# Altium schematic symbol library Connector.SchLib: 56 symbols
Pins are listed as number, name and electrical type; pins without a type are passive.

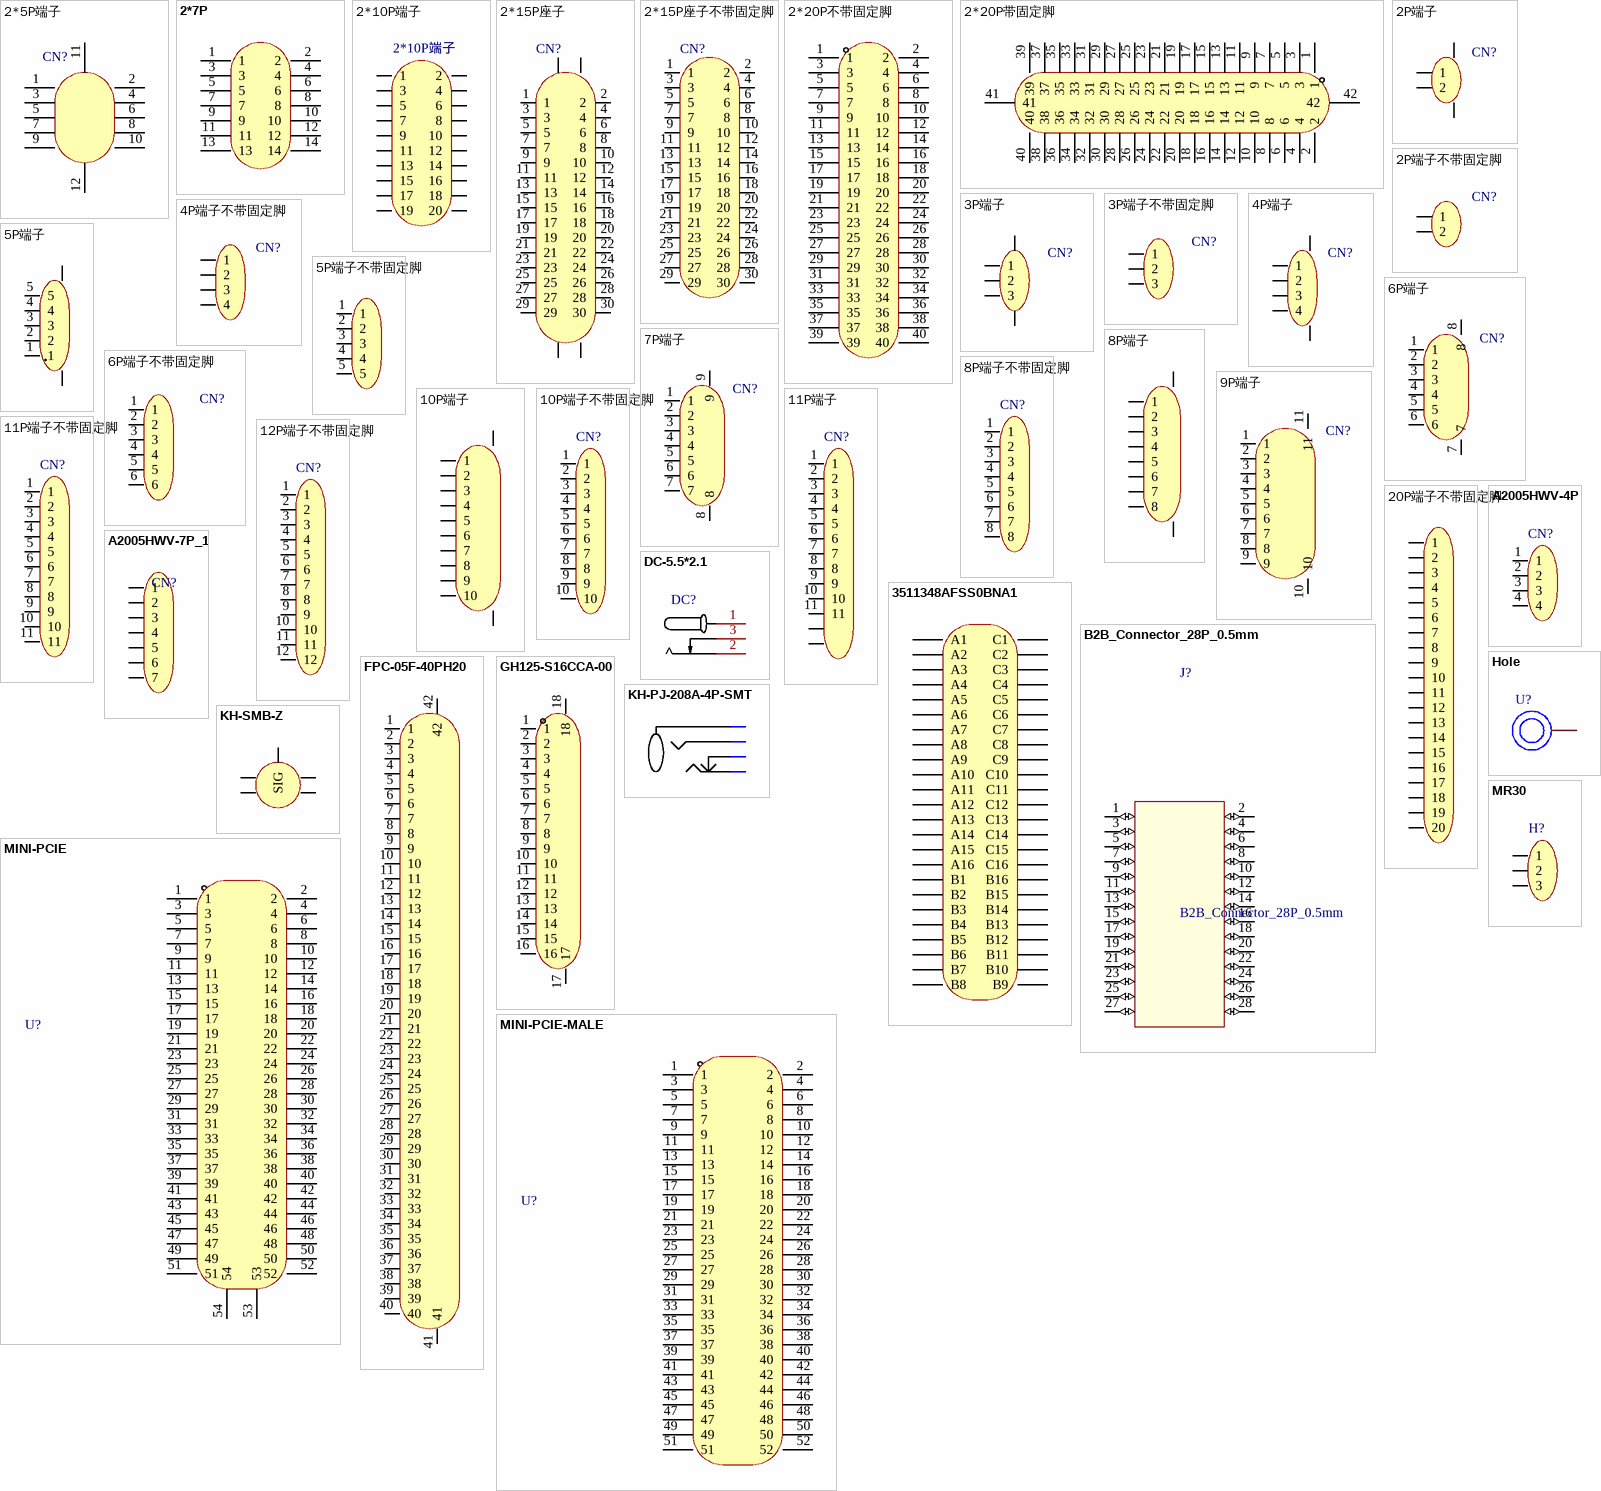
[diagram p0: symbols 2*5P端子 to MR30]

## 2*5P端子
designator CN?
Manufacturer: HRS(广濑); Name: DF13EA-10DP-1.25V(51); Add into BOM: yes; Pitch: 1.25mm; Pins Structure: 2x5P; Number of PINs Per Row: 5; Symbol: DF13EA-10DP-1.25V(51); Device: DF13EA-10DP-1.25V(51); LCSC Part Name: 1.25mm 2x5P 镀金; Supplier Part: C202097; Manufacturer Part: DF13EA-10DP-1.25V(51); Supplier Footprint: -; JLCPCB Part Class: 扩展库; Datasheet: https://atta.szlcsc.com/upload/public/pdf/source/20180509/C202097_E7D921A58D397E1E94E897FCB3FA39ED.pdf; Supplier: LCSC; Convert to PCB: yes; Reference Series: -; Number of Rows: 2; Row Spacing: 1.25mm; Mounting Style: -; Contact Material: 黄铜
footprint CONN-SMD_DF13EA-10DP-1.25V-51
pins: 1, 2, 3, 4, 5, 6, 7, 8, 9, 10, 11, 12

## 2*7P
designator ?, comment 220S-2*7P H=8.5MM Ytype Gold-plated  (value not drawn)
Designer: U?; Symbol: 220S-2*7P H=8.5MM Ytype Gold-plated; Device: 220S-2*7P H=8.5MM Ytype Gold-plated
footprint HDR-TH_14P-P2.54-V-F-R2-C7-S2.54-1
pins: 1, 2, 3, 4, 5, 6, 7, 8, 9, 10, 11, 12, 13, 14

## 2*10P端子
designator 2*10P端子, comment HDR-F_2.54_2x10  (value not drawn)
Symbol: HDR-F-2.54_2x10; Convert to PCB: yes; Device: HDR-F_2.54_2x10; Add into BOM: yes; Supplier Part: C30867; Supplier Footprint: 插件
footprint HDR-TH_20P-P2.54-V-R2-C10-S2.54
pins: 1, 2, 3, 4, 5, 6, 7, 8, 9, 10, 11, 12, 13, 14, 15, 16, 17, 18, 19, 20

## 2*15P座子
designator CN?, comment DF40C-30DP-0.4V(51)  (value not drawn)
Manufacturer: HRS(广濑); Add into BOM: yes; Pitch: 0.4mm; Gender: 公; Current Rating (Max): 300mA; Symbol: DF40C-30DP-0.4V(51); Device: DF40C-30DP-0.4V(51); LCSC Part Name: 间距:0.4mm 公 立贴; Supplier Part: C429942; Manufacturer Part: DF40C-30DP-0.4V(51); Supplier Footprint: SMD,P=0.4mm; JLCPCB Part Class: 扩展库; Datasheet: https://atta.szlcsc.com/upload/public/pdf/source/20231113/18A8F069D5701786547DA45156C17706.pdf; Supplier: LCSC; Convert to PCB: yes; Number of Pins: -; Mounting Style: 立贴; Number of Rows: 2; Contact Material: -; Contact Plating: 金; Operating Temperature Range: -35℃~+85℃
footprint CONN-SMD_DF40C-30DP-0.4V-51
pins: 1, 2, 3, 4, 5, 6, 7, 8, 9, 10, 11, 12, 13, 14, 15, 16, 17, 18, 19, 20, 21, 22, 23, 24, 25, 26, 27, 28, 29, 30, 31, 32, 33, 34

## 2*15P座子不带固定脚
designator CN?, comment DF40C-30DS-0.4V(51)  (value not drawn)
Manufacturer: HRS(广濑); Add into BOM: yes; Pitch: 0.4mm; Gender: 母; Current Rating (Max): 300mA; Symbol: DF40C-30DS-0.4V(51); Device: DF40C-30DS-0.4V(51); LCSC Part Name: 间距:0.4mm 母 立贴; Supplier Part: C424642; Manufacturer Part: DF40C-30DS-0.4V(51); Supplier Footprint: SMD,P=0.4mm; JLCPCB Part Class: 扩展库; Datasheet: https://atta.szlcsc.com/upload/public/pdf/source/20190903/C424648_4BEB475664B3701E3114D0DD20EED667.pdf; Supplier: LCSC; Convert to PCB: yes; Number of Pins: -; Mounting Style: 立贴; Number of Rows: 2; Contact Plating: 金; Operating Temperature Range: -35℃~+85℃
footprint CONN-SMD_DF40C-30DS-0.4V-51 (母座)
pins: 1, 2, 3, 4, 5, 6, 7, 8, 9, 10, 11, 12, 13, 14, 15, 16, 17, 18, 19, 20, 21, 22, 23, 24, 25, 26, 27, 28, 29, 30

## 2*20P不带固定脚
designator ?, comment 5054334071  (value not drawn)
Designer: U?; Symbol: 5054334071; Device: 5054334071
footprint IDC-SMD_40P-P2.00_B-3002N40P-0110
pins: 1, 2, 3, 4, 5, 6, 7, 8, 9, 10, 11, 12, 13, 14, 15, 16, 17, 18, 19, 20, 21, 22, 23, 24, 25, 26, 27, 28, 29, 30, 31, 32, 33, 34, 35, 36, 37, 38, 39, 40

## 2*20P带固定脚
designator ?, comment 5054334071  (value not drawn)
Designer: U?; Symbol: 5054334071; Device: 5054334071
footprint CONN-SMD_40P-P1.00_XKB_X1004WVS-2X20-9TV01
footprint CONN-SMD_40P-P1.00_HDGC_HDGC1002WV-S-2X20P
pins: 1, 2, 3, 4, 5, 6, 7, 8, 9, 10, 11, 12, 13, 14, 15, 16, 17, 18, 19, 20, 21, 22, 23, 24, 25, 26, 27, 28, 29, 30, 31, 32, 33, 34, 35, 36, 37, 38, 39, 40, 41, 42

## 2P端子
designator CN?, comment HDGC1002WR-S-3P  (value not drawn)
Manufacturer: HDGC(华德共创); Add into BOM: yes; Name: HDGC1002WR-S-3P; Symbol: HDGC1002WR-S-3P; Device: HDGC1002WR-S-3P; LCSC Part Name: SH1.0针座卧贴 3P; Supplier Part: C2936213; Manufacturer Part: HDGC1002WR-S-3P; Supplier Footprint: SMD,P=1mm; JLCPCB Part Class: 扩展库; Datasheet: https://atta.szlcsc.com/upload/public/pdf/source/20211229/E8A09E85670B5E97244D2008A24D97FE.pdf; Supplier: LCSC; Convert to PCB: yes
footprint SH1.0_2P
footprint CONN-SMD_2P-P1.27_GH125-S02CCA-00
footprint CONN-SMD_2P-P2.50-WT
footprint CONN-SMD_2P-P1.25_L4.4-W7.4
footprint CONN-SMD_2P-P1.50_ZX-ZH1.5-2PWT
footprint CONN-TH_2P-P1.25_XUNPU_WAFER-GH1.25-2PWB
pins: 1, 2, 3, 4

## 2P端子不带固定脚
designator CN?, comment HDGC1002WR-S-3P  (value not drawn)
Manufacturer: HDGC(华德共创); Add into BOM: yes; Name: HDGC1002WR-S-3P; Symbol: HDGC1002WR-S-3P; Device: HDGC1002WR-S-3P; LCSC Part Name: SH1.0针座卧贴 3P; Supplier Part: C2936213; Manufacturer Part: HDGC1002WR-S-3P; Supplier Footprint: SMD,P=1mm; JLCPCB Part Class: 扩展库; Datasheet: https://atta.szlcsc.com/upload/public/pdf/source/20211229/E8A09E85670B5E97244D2008A24D97FE.pdf; Supplier: LCSC; Convert to PCB: yes
footprint CONN-TH_P5.08_KF2EDGVC-5.08-2P
pins: 1, 2

## 3P端子
designator CN?, comment HDGC1002WR-S-3P  (value not drawn)
Manufacturer: HDGC(华德共创); Add into BOM: yes; Name: HDGC1002WR-S-3P; Symbol: HDGC1002WR-S-3P; Device: HDGC1002WR-S-3P; LCSC Part Name: SH1.0针座卧贴 3P; Supplier Part: C2936213; Manufacturer Part: HDGC1002WR-S-3P; Supplier Footprint: SMD,P=1mm; JLCPCB Part Class: 扩展库; Datasheet: https://atta.szlcsc.com/upload/public/pdf/source/20211229/E8A09E85670B5E97244D2008A24D97FE.pdf; Supplier: LCSC; Convert to PCB: yes
footprint SH1.0_3P
footprint GH1.25_3P
footprint GH1.25_3P-STAND
footprint SH1.0_3P-STAND (SH1.0_3P)
pins: 1, 2, 3, 4, 5

## 3P端子不带固定脚
designator CN?, comment HDGC1002WR-S-3P  (value not drawn)
Manufacturer: HDGC(华德共创); Add into BOM: yes; Name: HDGC1002WR-S-3P; Symbol: HDGC1002WR-S-3P; Device: HDGC1002WR-S-3P; LCSC Part Name: SH1.0针座卧贴 3P; Supplier Part: C2936213; Manufacturer Part: HDGC1002WR-S-3P; Supplier Footprint: SMD,P=1mm; JLCPCB Part Class: 扩展库; Datasheet: https://atta.szlcsc.com/upload/public/pdf/source/20211229/E8A09E85670B5E97244D2008A24D97FE.pdf; Supplier: LCSC; Convert to PCB: yes
footprint HDR-TH_3P-P2.54-V-F (间距2.54)
pins: 1, 2, 3

## 4P端子
designator CN?, comment HDGC1002WR-S-4P  (value not drawn)
Manufacturer: HDGC(华德共创); Add into BOM: yes; Name: HDGC1002WR-S-4P; Symbol: HDGC1002WR-S-4P; Device: HDGC1002WR-S-4P; LCSC Part Name: SH1.0针座卧贴 4P; Supplier Part: C2936214; Manufacturer Part: HDGC1002WR-S-4P; Supplier Footprint: SMD,P=1mm; JLCPCB Part Class: 扩展库; Datasheet: https://atta.szlcsc.com/upload/public/pdf/source/20211229/E8A09E85670B5E97244D2008A24D97FE.pdf; Supplier: LCSC; Convert to PCB: yes
footprint SH1.0_4P
footprint GH1.25_4P
footprint GH1.25_4P-STAND
footprint FPC-SMD_P0.50-4P_LSSJ-H2.0-4P
footprint SH1.0_4P-STAND (SH1.0_4P)
pins: 1, 2, 3, 4, 5, 6

## 4P端子不带固定脚
designator CN?, comment HDGC1002WR-S-4P  (value not drawn)
Manufacturer: HDGC(华德共创); Add into BOM: yes; Name: HDGC1002WR-S-4P; Symbol: HDGC1002WR-S-4P; Device: HDGC1002WR-S-4P; LCSC Part Name: SH1.0针座卧贴 4P; Supplier Part: C2936214; Manufacturer Part: HDGC1002WR-S-4P; Supplier Footprint: SMD,P=1mm; JLCPCB Part Class: 扩展库; Datasheet: https://atta.szlcsc.com/upload/public/pdf/source/20211229/E8A09E85670B5E97244D2008A24D97FE.pdf; Supplier: LCSC; Convert to PCB: yes
footprint CONN-TH_4P-P5.08_KF2EDGVC-5.08-4P
footprint HDR-TH_4P-P2.54-V-F (间距2.54)
pins: 1, 2, 3, 4

## 5P端子
designator CN?
Manufacturer: BOOMELE(博穆精密); Name: GH1.25-5PWBPZ; Add into BOM: yes; Symbol: GH1.25-5PWBPZ; Device: GH1.25-5PWBPZ; LCSC Part Name: GH1.25-5P卧贴编带; Supplier Part: C2829254; Manufacturer Part: GH1.25-5PWBPZ; Supplier Footprint: -; JLCPCB Part Class: 扩展库; Datasheet: https://atta.szlcsc.com/upload/public/pdf/source/20211125/08A09A4909F58AF780B71FE423A00F7E.pdf; Supplier: LCSC; Convert to PCB: yes
footprint GH1.25_5P
footprint GH1.25_5P-STAND
footprint SH1.0_5P
footprint SH1.0-5P-STAND
pins: 1, 2, 3, 4, 5, 6, 7

## 5P端子不带固定脚
designator CN??, comment DB2EVC-2.54-5P-GN  (value not drawn)
Manufacturer: DIBO(地博电气); Add into BOM: yes; Connector Type: 板端/插座-闭口; Structure: 1x5P; Pitch: 2.54mm; Number of PINs Per Row: 5; Current Rating (Max): 5A; Voltage Rating (Max): 150V; Name: DB2EVC-2.54-5P-GN; Symbol: DB2EVC-2.54-5P-GN; Device: DB2EVC-2.54-5P-GN; LCSC Part Name: 板端/插座-闭口 1x5P 2.54mm 排数:1 每排P数:5 直针; Supplier Part: C2927496; Manufacturer Part: DB2EVC-2.54-5P-GN; Supplier Footprint: 插件,P=2.54mm; JLCPCB Part Class: Extended Part; Datasheet: https://atta.szlcsc.com/upload/public/pdf/source/20230321/FA8558C4B64694DD69E8038406C6376C.pdf; Supplier: LCSC; Convert to PCB: yes; Number of Rows: 1; Mounting Style: 直针; Contact Material: 铜合金; Contact Plating: 锡; Operating Temperature Range: -40℃~+105℃; Color: 绿色
footprint CONN-TH_5P-P2.54_DIBO_DB2EVC-2.54-5P-GN
pins: 1, 2, 3, 4, 5

## 6P端子
designator CN?, comment SH1.0-6P  (value not drawn)
Manufacturer: HDGC(华德共创); Name: 1.0K-BH-6PWB; Add into BOM: yes; Symbol: 1.0K-BH-6PWB; Device: 1.0K-BH-6PWB; LCSC Part Name: 1x6P 间距P=1.0mm 卧贴 SMT; Supplier Part: C2919607; Manufacturer Part: 1.0K-BH-6PWB; Supplier Footprint: SMD,P=1mm; JLCPCB Part Class: 扩展库; Datasheet: https://atta.szlcsc.com/upload/public/pdf/source/20211115/0C4A9B301513FDEAA34F959002791CED.pdf; Supplier: LCSC; Convert to PCB: yes
footprint SH1.0_6P
footprint FPC-SMD_P0.50-6P_LSSJ-H2.0-6P - duplicate
footprint CONN-SMD_6P-P1.25_XUNPU_WAFER-GH1.25-6PWB
pins: 1, 2, 3, 4, 5, 6, 7, 8

## 6P端子不带固定脚
designator CN?, comment SH1.0-6P  (value not drawn)
Manufacturer: HDGC(华德共创); Name: 1.0K-BH-6PWB; Add into BOM: yes; Symbol: 1.0K-BH-6PWB; Device: 1.0K-BH-6PWB; LCSC Part Name: 1x6P 间距P=1.0mm 卧贴 SMT; Supplier Part: C2919607; Manufacturer Part: 1.0K-BH-6PWB; Supplier Footprint: SMD,P=1mm; JLCPCB Part Class: 扩展库; Datasheet: https://atta.szlcsc.com/upload/public/pdf/source/20211115/0C4A9B301513FDEAA34F959002791CED.pdf; Supplier: LCSC; Convert to PCB: yes
footprint CONN-TH_6P-P5.08_KF2EDGVC-5.08-6P
footprint HDR-TH_6P-P1.27-V-M-1
pins: 1, 2, 3, 4, 5, 6

## 7P端子
designator CN?, comment HDGC1002WR-S-7P  (value not drawn)
Manufacturer: HDGC(华德共创); Add into BOM: yes; Name: HDGC1002WR-S-7P; Symbol: HDGC1002WR-S-7P; Device: HDGC1002WR-S-7P; LCSC Part Name: SH1.0针座卧贴 7P; Supplier Part: C5175296; Manufacturer Part: HDGC1002WR-S-7P; Supplier Footprint: SMD,P=1mm; JLCPCB Part Class: 扩展库; Datasheet: https://atta.szlcsc.com/upload/public/pdf/source/20220916/BAB1FBE762C51A6AFF93A047416729EC.pdf; Supplier: LCSC; Convert to PCB: yes
footprint SH1.0_7P
footprint GH1.25_7P-STAND
pins: 1, 2, 3, 4, 5, 6, 7, 8, 9

## 8P端子
designator ?, comment A1002WR-S-8P  (value not drawn)
Designer: U?; Symbol: A1002WR-S-8P; Device: A1002WR-S-8P
footprint SH1.0-8P
footprint CONN-SMD_8P-P1.25_JS_GH125-S08CCA-00
footprint SH1.0_8P-STAND
pins: 1, 2, 3, 4, 5, 6, 7, 8, 9, 10

## 8P端子不带固定脚
designator CN?, comment X1002WRS-11B1-9TSN  (value not drawn)
Manufacturer: XKB Connectivity(中国星坤); Add into BOM: yes; Pitch: 1mm; Pins Structure: 1x11P; Number of PINs Per Row: 11; Gender: 公型插针; Current Rating (Max): 1A; Welding Temperature (Max): 260℃; Name: X1002WRS-11B1-9TSN; Symbol: X1002WRS-11B1-9TSN; Device: X1002WRS-11B1-9TSN; LCSC Part Name: 1mm 1x11P 卧贴 带锁扣; Supplier Part: C528067; Manufacturer Part: X1002WRS-11B1-9TSN; Supplier Footprint: SMD,P=1mm; JLCPCB Part Class: 扩展库; Datasheet: https://atta.szlcsc.com/upload/public/pdf/source/20211011/1437E7AC5BA28D97E3BC6E2D0E99510D.pdf; Supplier: LCSC; Convert to PCB: yes; Reference Series: -; Number of Rows: 1; Row Spacing: -; Mounting Style: 卧贴; Contact Material: 黄铜; Contact Plating: 锡; Operating Temperature Range: -25℃~+85℃
footprint CONN-TH_8P-P5.08_KF2EDGVC-5.08-8P
pins: 1, 2, 3, 4, 5, 6, 7, 8

## 9P端子
designator CN?
Manufacturer: CJT(长江连接器); Name: A1002WR-S-9P; Add into BOM: yes; Connector Type: 接头; Pitch: 0.039"(1.00mm); Number of Positions: 9; Symbol: A1002WR-S-9P; Device: A1002WR-S-9P; LCSC Part Name: 9P,脚距1mm; Supplier Part: C239527; Manufacturer Part: A1002WR-S-9P; Supplier Footprint: SMD,P=1mm; JLCPCB Part Class: 扩展库; Datasheet: https://atta.szlcsc.com/upload/public/pdf/watermark/20190926/C239527_79690E7FD0B07AA3BF9EDF2D4BF92296.pdf; Supplier: LCSC; Convert to PCB: yes; Series: SH; Contact Type: 公形引脚; Number of Rows: 1; Row Spacing: -; Mounting Type: 表面贴装; Contact Material: 磷青铜
footprint SH1.0_9P
pins: 1, 2, 3, 4, 5, 6, 7, 8, 9, 10, 11

## 10P端子
designator ?, comment A1002WR-S-10P  (value not drawn)
Designer: U?; Symbol: A1002WR-S-10P; Device: A1002WR-S-10P
footprint SH1.0-10P
footprint FPC-SMD_KH-FG1.0-H2.0-10PIN
footprint FFC-SMD_10P-P0.50_FH34SRJ-10S-0.5SH
pins: 1, 2, 3, 4, 5, 6, 7, 8, 9, 10, 11, 12

## 10P端子不带固定脚
designator CN?, comment X1002WRS-11B1-9TSN  (value not drawn)
Manufacturer: XKB Connectivity(中国星坤); Add into BOM: yes; Pitch: 1mm; Pins Structure: 1x11P; Number of PINs Per Row: 11; Gender: 公型插针; Current Rating (Max): 1A; Welding Temperature (Max): 260℃; Name: X1002WRS-11B1-9TSN; Symbol: X1002WRS-11B1-9TSN; Device: X1002WRS-11B1-9TSN; LCSC Part Name: 1mm 1x11P 卧贴 带锁扣; Supplier Part: C528067; Manufacturer Part: X1002WRS-11B1-9TSN; Supplier Footprint: SMD,P=1mm; JLCPCB Part Class: 扩展库; Datasheet: https://atta.szlcsc.com/upload/public/pdf/source/20211011/1437E7AC5BA28D97E3BC6E2D0E99510D.pdf; Supplier: LCSC; Convert to PCB: yes; Reference Series: -; Number of Rows: 1; Row Spacing: -; Mounting Style: 卧贴; Contact Material: 黄铜; Contact Plating: 锡; Operating Temperature Range: -25℃~+85℃
footprint CONN-TH_10P-P5.08_KF2EDGVC-5.08-10P
pins: 1, 2, 3, 4, 5, 6, 7, 8, 9, 10

## 11P端子
designator CN?, comment X1002WRS-11B1-9TSN  (value not drawn)
Manufacturer: XKB Connectivity(中国星坤); Add into BOM: yes; Pitch: 1mm; Pins Structure: 1x11P; Number of PINs Per Row: 11; Gender: 公型插针; Current Rating (Max): 1A; Welding Temperature (Max): 260℃; Name: X1002WRS-11B1-9TSN; Symbol: X1002WRS-11B1-9TSN; Device: X1002WRS-11B1-9TSN; LCSC Part Name: 1mm 1x11P 卧贴 带锁扣; Supplier Part: C528067; Manufacturer Part: X1002WRS-11B1-9TSN; Supplier Footprint: SMD,P=1mm; JLCPCB Part Class: 扩展库; Datasheet: https://atta.szlcsc.com/upload/public/pdf/source/20211011/1437E7AC5BA28D97E3BC6E2D0E99510D.pdf; Supplier: LCSC; Convert to PCB: yes; Reference Series: -; Number of Rows: 1; Row Spacing: -; Mounting Style: 卧贴; Contact Material: 黄铜; Contact Plating: 锡; Operating Temperature Range: -25℃~+85℃
footprint SH1.0-11P (SH1.0-11P卧贴)
footprint FPC-SMD_P0.50-11P_LCS-SJ-H2.0
pins: 1, 2, 3, 4, 5, 6, 7, 8, 9, 10, 11, 12, 13

## 11P端子不带固定脚
designator CN?, comment X1002WRS-11B1-9TSN  (value not drawn)
Manufacturer: XKB Connectivity(中国星坤); Add into BOM: yes; Pitch: 1mm; Pins Structure: 1x11P; Number of PINs Per Row: 11; Gender: 公型插针; Current Rating (Max): 1A; Welding Temperature (Max): 260℃; Name: X1002WRS-11B1-9TSN; Symbol: X1002WRS-11B1-9TSN; Device: X1002WRS-11B1-9TSN; LCSC Part Name: 1mm 1x11P 卧贴 带锁扣; Supplier Part: C528067; Manufacturer Part: X1002WRS-11B1-9TSN; Supplier Footprint: SMD,P=1mm; JLCPCB Part Class: 扩展库; Datasheet: https://atta.szlcsc.com/upload/public/pdf/source/20211011/1437E7AC5BA28D97E3BC6E2D0E99510D.pdf; Supplier: LCSC; Convert to PCB: yes; Reference Series: -; Number of Rows: 1; Row Spacing: -; Mounting Style: 卧贴; Contact Material: 黄铜; Contact Plating: 锡; Operating Temperature Range: -25℃~+85℃
footprint CONN-TH_11P-P5.08_KF2EDGVC-5.08-11P
pins: 1, 2, 3, 4, 5, 6, 7, 8, 9, 10, 11

## 12P端子不带固定脚
designator CN?, comment X1002WRS-11B1-9TSN  (value not drawn)
Manufacturer: XKB Connectivity(中国星坤); Add into BOM: yes; Pitch: 1mm; Pins Structure: 1x11P; Number of PINs Per Row: 11; Gender: 公型插针; Current Rating (Max): 1A; Welding Temperature (Max): 260℃; Name: X1002WRS-11B1-9TSN; Symbol: X1002WRS-11B1-9TSN; Device: X1002WRS-11B1-9TSN; LCSC Part Name: 1mm 1x11P 卧贴 带锁扣; Supplier Part: C528067; Manufacturer Part: X1002WRS-11B1-9TSN; Supplier Footprint: SMD,P=1mm; JLCPCB Part Class: 扩展库; Datasheet: https://atta.szlcsc.com/upload/public/pdf/source/20211011/1437E7AC5BA28D97E3BC6E2D0E99510D.pdf; Supplier: LCSC; Convert to PCB: yes; Reference Series: -; Number of Rows: 1; Row Spacing: -; Mounting Style: 卧贴; Contact Material: 黄铜; Contact Plating: 锡; Operating Temperature Range: -25℃~+85℃
footprint CONN-TH_12P-P5.08_KF2EDGVC-5.08-12P
pins: 1, 2, 3, 4, 5, 6, 7, 8, 9, 10, 11, 12

## 20P端子不带固定脚
designator H??, comment X5511FV-20-C70D30-1000  (value not drawn)
Manufacturer: XKB Connectivity(中国星坤); Add into BOM: yes; Number of Holes: 20; Pitch: 2.54mm; Holes Structure: 1x20P; Circular Hole / Square Hole: 圆孔; Current Rating (Max): 3A; Holes Direction: 顶部; Welding Temperature (Max): 260℃; Name: X5511FV-20-C70D30-1000; Symbol: X5511FV-20-C70D30-1000; Device: X5511FV-20-C70D30-1000; LCSC Part Name: 2.54mm 1x20P; Supplier Part: C2684741; Manufacturer Part: X5511FV-20-C70D30-1000; Supplier Footprint: 插件,P=2.54mm; JLCPCB Part Class: Extended Part; Datasheet: https://atta.szlcsc.com/upload/public/pdf/source/20210118/C2684739_C189B04B0AEE96BAD6B95F9E817AD865.pdf; Supplier: LCSC; Convert to PCB: yes; Number of Rows: 单排; Row Spacing: -; Mounting Type: 直插; Voltage Rating (Max): -; Insulation Height: 7mm; Contact Material: 黄铜; Contact Plating: 金; Operating Temperature Range: -40℃~+105℃
footprint HDR-TH_20P-P2.54-V-F-3
pins: 1, 2, 3, 4, 5, 6, 7, 8, 9, 10, 11, 12, 13, 14, 15, 16, 17, 18, 19, 20

## 3511348AFSS0BNA1
designator CN??  (value not drawn)
Manufacturer: JILN(锦凌); Add into BOM: yes; Pitch: 2.54mm; Gender: 母; Current Rating (Max): 3A; Name: 3511348AFSS0BNA1; Symbol: 3511348AFSS0BNA1; Device: 3511348AFSS0BNA1; LCSC Part Name: PIN：48 间距2.54mm 母 直插; Supplier Part: C963718; Manufacturer Part: 3511348AFSS0BNA1; Supplier Footprint: 插件,P=2.54mm; JLCPCB Part Class: Extended Part; Datasheet: https://atta.szlcsc.com/upload/public/pdf/source/20201217/C963710_026A578C4DD6CA6E8E7D5B8DAB6B0D5B.pdf; Supplier: LCSC; Convert to PCB: yes; Number of Pins: 48; Number of Rows: 3; Mounting Style: 直插; Operating Temperature Range: -40℃~+105℃
footprint CONN-TH_3511348AFSS0BNA1
pins: A1, A2, A3, A4, A5, A6, A7, A8, A9, A10, A11, A12, A13, A14, A15, A16, B1, B2, B3, B4, B5, B6, B7, B8, B9, B10, B11, B12, B13, B14, B15, B16, C1, C2, C3, C4, C5, C6, C7, C8, C9, C10, C11, C12, C13, C14, C15, C16

## A2005HWV-4P
designator CN?, comment 4P直插排针/母  (value not drawn)
排数:单排;总孔位数:4;间距:2mm;插孔结构:1x4P;行距:-;安装类型:直插;塑高:-;触头材质:磷青铜;触头镀层:-;; Manufacturer: CJT(长江连接器); Name: A2005HWV-4P; Add into BOM: yes; Number of Holes: 4; Pitch: 2mm; Holes Structure: 1x4P; Symbol: A2005HWV-4P; Device: A2005HWV-4P; LCSC Part Name: 2mm 1x4P 镀金; Supplier Part: C225282; Manufacturer Part: A2005HWV-4P; Supplier Footprint: 插件,P=2mm; JLCPCB Part Class: 扩展库; Datasheet: https://atta.szlcsc.com/upload/public/pdf/source/20180509/C225282_EA1BF45A07650844C9F1414BB7364766.pdf; Supplier: LCSC; Convert to PCB: yes; Number of Rows: 单排; Row Spacing: -; Mounting Type: 直插; Insulation Height: -; Contact Material: 磷青铜; Contact Plating: -
footprint HDR-TH_4P-P2.00-V-F
footprint HDR-TH_4P-P2.54-V-F (间距2.54)
pins: 1, 2, 3, 4

## A2005HWV-7P_1
designator CN?, comment 7P直插排针/母  (value not drawn)
Manufacturer: CJT(长江连接器); Name: A2005HWV-4P; Add into BOM: yes; Number of Holes: 4; Pitch: 2mm; Holes Structure: 1x4P; Symbol: A2005HWV-4P; Device: A2005HWV-4P; LCSC Part Name: 2mm 1x4P 镀金; Supplier Part: C225282; Manufacturer Part: A2005HWV-4P; Supplier Footprint: 插件,P=2mm; JLCPCB Part Class: 扩展库; Datasheet: https://atta.szlcsc.com/upload/public/pdf/source/20180509/C225282_EA1BF45A07650844C9F1414BB7364766.pdf; Supplier: LCSC; Convert to PCB: yes; Number of Rows: 单排; Row Spacing: -; Mounting Type: 直插; Insulation Height: -; Contact Material: 磷青铜; Contact Plating: -
footprint HDR-TH_7P-P2.54-V-F (间距2.54)
pins: 1, 2, 3, 4, 5, 6, 7

## B2B_Connector_28P_0.5mm
designator J?
footprint BTB_2*14_0.5MM_M (BTB_2*14_公头)
pins: 1 (io), 2 (io), 3 (io), 4 (io), 5 (io), 6 (io), 7 (io), 8 (io), 9 (io), 10 (io), 11 (io), 12 (io), 13 (io), 14 (io), 15 (io), 16 (io), 17 (io), 18 (io), 19 (io), 20 (io), 21 (io), 22 (io), 23 (io), 24 (io), 25 (io), 26 (io), 27 (io), 28 (io)

## DC-5.5*2.1
designator DC?, comment DC-005-5.5*2.1  (value not drawn)
Add into BOM: yes; Name: DC-005-5.5*2.1; Symbol: DC-005-5.5*2.1; Device: DC-005-5.5*2.1; LCSC Part Name: DC-005-5.5*2.1; Supplier Part: C9900017044; Manufacturer Part: DC-005-5.5*2.1; Supplier Footprint: DC-005; JLCPCB Part Class: 扩展库; Datasheet: https://atta.szlcsc.comnull; Supplier: LCSC; Convert to PCB: yes
footprint DC_5521
pins: 1, 2, 3

## FPC-05F-40PH20
designator FPC??  (value not drawn)
Manufacturer: XUNPU(讯普); Add into BOM: yes; Locking Feature: 翻盖式; Number of Contacts: 40P; Pitch: 0.5mm; FFC, FCB Thickness: 0.3mm; Name: FPC-05F-40PH20; Symbol: FPC-05F-40PH20; Device: FPC-05F-40PH20; LCSC Part Name: 间距:0.5mm P数:40P 翻盖式 下接; Supplier Part: C2856812; Manufacturer Part: FPC-05F-40PH20; Supplier Footprint: SMD,P=0.5mm,卧贴; JLCPCB Part Class: Extended Part; Datasheet: https://atta.szlcsc.com/upload/public/pdf/source/20210922/C2856812_6287431CB3508779F3E00A65E2D53D60.pdf; Supplier: LCSC; Convert to PCB: yes; Contact Type: 下接; Mounting Type: 卧贴; Height Above Board: 2mm; Operating Temperature Range: -25℃~+85℃
footprint FPC-SMD_40P-P0.50_FPC-05F-40PH20
pins: 1, 2, 3, 4, 5, 6, 7, 8, 9, 10, 11, 12, 13, 14, 15, 16, 17, 18, 19, 20, 21, 22, 23, 24, 25, 26, 27, 28, 29, 30, 31, 32, 33, 34, 35, 36, 37, 38, 39, 40, 41, 42

## GH125-S16CCA-00
designator ?  (value not drawn)
Designer: U?; Symbol: GH125-S16CCA-00; Device: GH125-S16CCA-00
footprint CONN-SMD_16P-P1.25_JS_GH125-S16CCA-00
pins: 1, 2, 3, 4, 5, 6, 7, 8, 9, 10, 11, 12, 13, 14, 15, 16, 17, 18

## Hole
designator U?, comment 螺柱孔  (value not drawn)
Symbol: M2螺柱孔; Add into BOM: yes; _: 3; Device: M2螺柱孔; Convert to PCB: yes
footprint M2 (M2螺孔)
footprint M1 (M1螺孔)
footprint M1-Unmetal (M1螺孔)
footprint M3
pins: 1

## KH-PJ-208A-4P-SMT
designator AJ??  (value not drawn)
Manufacturer: kinghelm(金航标); Add into BOM: yes; Connector Type: 2.5mm耳机座; Symbol: KH-PJ-208A-4P-SMT; Device: KH-PJ-208A-4P-SMT; LCSC Part Name: 2.5mm耳机座; Supplier Part: C5123151; Manufacturer Part: KH-PJ-208A-4P-SMT; Supplier Footprint: SMD; JLCPCB Part Class: Extended Part; Datasheet: https://atta.szlcsc.com/upload/public/pdf/source/20220804/AE49C4D9B98724794643A659FAA80CCB.pdf; Supplier: LCSC; Convert to PCB: yes; Contact Material: 磷铜
footprint AUDIO-SMD_KH-PJ-208A-4P-SMT
pins: 2, 3, 4, 5

## KH-SMB-Z
designator ?  (value not drawn)
Designer: U?; Symbol: KH-SMB-Z; Device: KH-SMB-Z
footprint RF-TH_KH-SMB-Z
pins: 1, 2, 3, 4, 5 SIG

## MINI-PCIE
designator U?, comment PCIE-52P52H  (value not drawn)
Symbol: PCIE-52P52H_C9900004123; Add into BOM: yes; Device: PCIE-52P52H_C9900004123; LCSC Part Name: PCIE-52P52H; Supplier Part: C9900004123; Manufacturer Part: PCIE-52P52H; Supplier Footprint: MINIPCIE-SMD_MINIPCI-E_SLOT; JLCPCB Part Class: 扩展库; Supplier: LCSC; Convert to PCB: yes; Name: =
footprint MINIPCIE-SMD_MINIPCI-E_SLOT
pins: 1, 2, 3, 4, 5, 6, 7, 8, 9, 10, 11, 12, 13, 14, 15, 16, 17, 18, 19, 20, 21, 22, 23, 24, 25, 26, 27, 28, 29, 30, 31, 32, 33, 34, 35, 36, 37, 38, 39, 40, 41, 42, 43, 44, 45, 46, 47, 48, 49, 50, 51, 52, 53, 54

## MINI-PCIE-MALE
designator U?, comment PCIE-52P52H  (value not drawn)
Symbol: PCIE-52P52H_C9900004123; Add into BOM: yes; Device: PCIE-52P52H_C9900004123; LCSC Part Name: PCIE-52P52H; Supplier Part: C9900004123; Manufacturer Part: PCIE-52P52H; Supplier Footprint: MINIPCIE-SMD_MINIPCI-E_SLOT; JLCPCB Part Class: 扩展库; Supplier: LCSC; Convert to PCB: yes; Name: =
footprint MINI-PCIE-MALE
footprint MINI-PCIE-MALE-ONLYPAD
pins: 1, 2, 3, 4, 5, 6, 7, 8, 9, 10, 11, 12, 13, 14, 15, 16, 17, 18, 19, 20, 21, 22, 23, 24, 25, 26, 27, 28, 29, 30, 31, 32, 33, 34, 35, 36, 37, 38, 39, 40, 41, 42, 43, 44, 45, 46, 47, 48, 49, 50, 51, 52

## MR30
designator H?  (value not drawn)
Manufacturer: AMASS(艾迈斯); Name: XT30U-M; Symbol: DC电源; Pin Type: IN; Add into BOM: yes; Device: XT30U-M; Convert to PCB: yes; Supplier Part: C99101; Supplier: LCSC; Manufacturer Part: XT30U-M; JLCPCB Part Class: 扩展库
footprint MR30_F (MR30_F_卧贴)
pins: 1, 2, 3

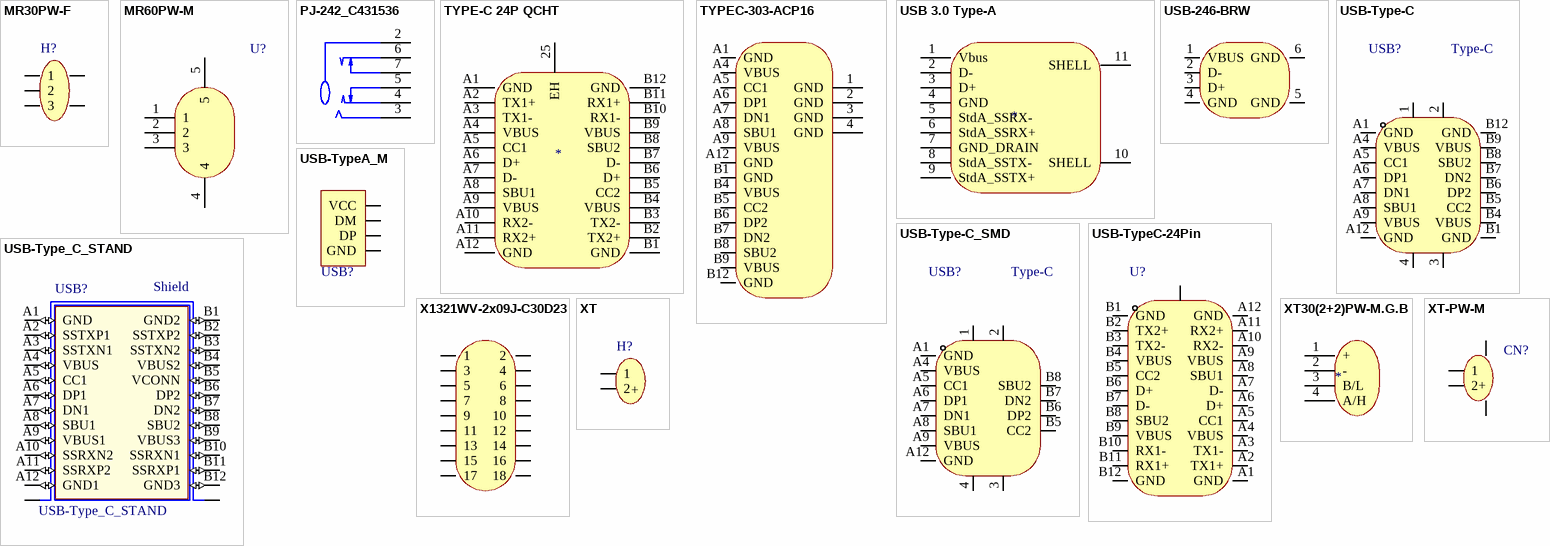
[diagram p1: symbols MR30PW-F to XT-PW-M]

## MR30PW-F
designator H?  (value not drawn)
Manufacturer: AMASS(艾迈斯); Name: XT30U-M; Symbol: DC电源; Pin Type: IN; Add into BOM: yes; Device: XT30U-M; Convert to PCB: yes; Supplier Part: C99101; Supplier: LCSC; Manufacturer Part: XT30U-M; JLCPCB Part Class: 扩展库
footprint CONN-TH_MR30PW-F
pins: 1, 2, 3, 4, 5

## MR60PW-M
designator U?, comment MR60PW-M公头  (value not drawn)
Add into BOM: yes; Symbol: MR60PW-M公头; Device: MR60PW-M公头; Convert to PCB: yes
footprint MR60PW-M
pins: 1, 2, 3, 4, 5

## PJ-242_C431536
designator CN??, comment PJ-242  (value not drawn)
Manufacturer: SHOU HAN(首韩); Device: PJ-242_C431536; Add into BOM: yes; Connector Type: 2.5mm耳机座; Symbol: PJ-242; LCSC Part Name: 2.5mm耳机座; Supplier Part: C431536; Manufacturer Part: PJ-242; Supplier Footprint: SMD; JLCPCB Part Class: Extended Part; Datasheet: https://atta.szlcsc.com/upload/public/pdf/source/20190925/C431536_7048346132159BE9EAB3AFD34D2FAB92.pdf; Supplier: LCSC; Convert to PCB: yes; Current Rating (Max): -; Voltage Rating (Max): -; Operating Temperature Range: -
footprint AUDIO-SMD_PJ-242
pins: 2, 3, 4, 5, 6, 7

## TYPE-C 24P QCHT
designator USB??
Symbol: TYPE-C 24P QCHT
footprint USB-C-SMD_TYPEC-324DBW-ECP24A
pins: 25 EH, A1 GND, A2 TX1+, A3 TX1-, A4 VBUS, A5 CC1, A6 D+, A7 D-, A8 SBU1, A9 VBUS, A10 RX2-, A11 RX2+, A12 GND, B1 GND, B2 TX2+, B3 TX2-, B4 VBUS, B5 CC2, B6 D+, B7 D-, B8 SBU2, B9 VBUS, B10 RX1-, B11 RX1+, B12 GND

## TYPEC-303-ACP16
designator ?  (value not drawn)
Designer: U?; Symbol: TYPEC-303-ACP16; Device: TYPEC-303-ACP16
footprint TYPE-C_16P_STAND
pins: 1 GND, 2 GND, 3 GND, 4 GND, A1 GND, A4 VBUS, A5 CC1, A6 DP1, A7 DN1, A8 SBU1, A9 VBUS, A12 GND, B1 GND, B4 VBUS, B5 CC2, B6 DP2, B7 DN2, B8 SBU2, B9 VBUS, B12 GND

## USB 3.0 Type-A
designator USB??
Symbol: HC-ST-003-01-J
footprint USB-3.0-A-TH_HC-ST-003-01-Z
pins: 1 Vbus, 2 D-, 3 D+, 4 GND, 5 StdA_SSRX-, 6 StdA_SSRX+, 7 GND_DRAIN, 8 StdA_SSTX-, 9 StdA_SSTX+, 10 SHELL, 11 SHELL

## USB-246-BRW
designator USB??  (value not drawn)
Manufacturer: XUNPU(讯普); Add into BOM: yes; Connector Type: Type-A; Gender: 母座; Number of Contacts: 4; Number of Ports: 1; Current Rating - Power (Max): 1.5A; Welding Temperature (Max): 260℃; Name: USB-246-BRW; Symbol: USB-246-BRW; Device: USB-246-BRW; LCSC Part Name: Type-A 母座 直插; Supplier Part: C720532; Manufacturer Part: USB-246-BRW; Supplier Footprint: 插件; JLCPCB Part Class: Extended Part; Datasheet: https://atta.szlcsc.com/upload/public/pdf/source/20200812/C720532_51B75B3B099F13F06B3F660D1CCCD48C.pdf; Supplier: LCSC; Convert to PCB: yes; Standard: USB 2.0; Mounting Style: 直插; Operating Temperature Range: -20℃~+70℃
footprint USB-A-TH_USB-246-BRW
pins: 1 VBUS, 2 D-, 3 D+, 4 GND, 5 GND, 6 GND

## USB-Type-C
designator USB?, comment Type-C
USB-Type-C_16P
footprint TYPE-C_16P
pins: 1 2, 2, 3, 4, A1 GND, A4 VBUS, A5 CC1, A6 DP1, A7 DN1, A8 SBU1, A9 VBUS, A12 GND, B1 GND, B4 VBUS, B5 CC2, B6 DP2, B7 DN2, B8 SBU2, B9 VBUS, B12 GND

## USB-Type-C_SMD
designator USB?, comment Type-C
USB-Type-C_16P
footprint USB-TYPE-C-SMD_TYPE-C-16P-QTWT
pins: 1 2, 2, 3, 4, A1 GND, A4 VBUS, A5 CC1, A6 DP1, A7 DN1, A8 SBU1, A9 VBUS, A12 GND, B5 CC2, B6 DP2, B7 DN2, B8 SBU2

## USB-Type_C_STAND
designator USB?
USB_Type-C_立贴; MP: 632722110112; MF: Wurth Electronics; SnapEDA_Link: https://www.snapeda.com/parts/632722110112/Wurth%20Electronics%20Inc./view-part/3596593/?ref=snap; Price: None; DigiKey-Purchase-URL: https://snapeda.com/shop?store=DigiKey&id=3596593; Package: None; Availability: Unavailable; Value: *
footprint TYPE_C_STAND (立贴Type-C_24P)
pins: 0 SHIELD (io), 0 SHIELD (io), 0 SHIELD1 (io), 0 SHIELD1 (io), A1 GND (io), A2 SSTXP1 (io), A3 SSTXN1 (io), A4 VBUS (io), A5 CC1 (io), A6 DP1 (io), A7 DN1 (io), A8 SBU1 (io), A9 VBUS1 (io), A10 SSRXN2 (io), A11 SSRXP2 (io), A12 GND1 (io), B1 GND2 (io), B2 SSTXP2 (io), B3 SSTXN2 (io), B4 VBUS2 (io), B5 VCONN (io), B6 DP2 (io), B7 DN2 (io), B8 SBU2 (io), B9 VBUS3 (io), B10 SSRXN1 (io), B11 SSRXP1 (io), B12 GND3 (io)
text: Shield

## USB-TypeA_M
designator USB?, comment USB-Type-A_M  (value not drawn)
USB_Type-A_公头
footprint USB_TypeA_M (公头USB_TypeA)
pins: 1 VCC, 2 DM, 3 DP, 4 GND

## USB-TypeC-24Pin
designator U?
连接器类型:Type-C;标准:-;公母:母座;触点数量:24;端口数量:1;额定电流 - 电源:-;; Manufacturer: MOLEX; Name: 1054500101; Symbol: 105450-0101; Add into BOM: yes; Connector Type: Type-C; Gender: 母座; Number of Contacts: 24; Number of Ports: 1; Device: 1054500101; LCSC Part Name: Type-C 母座; Supplier Part: C134092; Manufacturer Part: 1054500101; Supplier Footprint: SMD; JLCPCB Part Class: 扩展库; Datasheet: https://atta.szlcsc.com/upload/public/pdf/source/20171014/C134092_15079756303111038366.pdf; Supplier: LCSC; Convert to PCB: yes; Standard: -; Current Rating - Power (Max): -
footprint USB-C-SMD_TYPE-C-USB-18
footprint TYPE_C_STAND (立贴Type-C_24P)
pins: 0 GND, A1 GND, A2 TX1+, A3 TX1-, A4 VBUS, A5 CC1, A6 D+, A7 D-, A8 SBU1, A9 VBUS, A10 RX2-, A11 RX2+, A12 GND, B1 GND, B2 TX2+, B3 TX2-, B4 VBUS, B5 CC2, B6 D+, B7 D-, B8 SBU2, B9 VBUS, B10 RX1-, B11 RX1+, B12 GND

## X1321WV-2x09J-C30D23
designator U??  (value not drawn)
Manufacturer: XKB Connectivity(中国星坤); Add into BOM: yes; Pitch: 1.27mm; Pin Structure: 2x9P; Circluar Pins/Square Pins: 方针; Current Rating (Max): 1A; Voltage Rating (Max): 250V; Welding Temperature (Max): 260℃; Name: X1321WV-2x09J-C30D23; Symbol: X1321WV-2X09J-C30D23; Device: X1321WV-2x09J-C30D23; LCSC Part Name: 1.27mm 2x9P 直插 方针; Supplier Part: C2881791; Manufacturer Part: X1321WV-2x09J-C30D23; Supplier Footprint: 直插,P=1.27mm; JLCPCB Part Class: Extended Part; Supplier: LCSC; Convert to PCB: yes; Number of Rows: 双排; Number of Pins: 18; Row Spacing: 1.27mm; Mounting Type: 直插; Length of Mating Pin: 3mm; Insulation Height: 1mm; Length of End Connection Pin: 2.3mm; Contact Material: 黄铜; Contact Plating: 金; Operating Temperature Range: -40℃~+105℃; Color: 黑色
footprint HDR-TH_18P-P1.27-V-M-R2-C9-S1.27_XKB_X1321WV
pins: 1, 2, 3, 4, 5, 6, 7, 8, 9, 10, 11, 12, 13, 14, 15, 16, 17, 18

## XT
designator H?  (value not drawn)
Manufacturer: AMASS(艾迈斯); Name: XT30U-M; Symbol: DC电源; Pin Type: IN; Add into BOM: yes; Device: XT30U-M; Convert to PCB: yes; Supplier Part: C99101; Supplier: LCSC; Manufacturer Part: XT30U-M; JLCPCB Part Class: 扩展库
footprint XT30U_M_Null (XT30焊盘_不包含3D)
footprint XT60双面
footprint XT60双面-小 (XT60双面)
footprint CONN-TH_XT30UPB-M
footprint CONN-TH_XT60U-M
pins: 1, 2
text: +

## XT30(2+2)PW-M.G.B
designator U??
Symbol: XT30(2+2)PW-M.G.B
footprint CONN-TH_4P-XT30PW-M
footprint CONN-TH_XT30PB-M
pins: 1 +, 2 -, 3 B/L, 4 A/H

## XT-PW-M
designator CN?, comment XT30PW-M  (value not drawn)
Manufacturer: HDGC(华德共创); Name: HDGC1002WR-S-3P; Add into BOM: yes; Symbol: HDGC1002WR-S-3P; Device: HDGC1002WR-S-3P; LCSC Part Name: SH1.0针座卧贴 3P; Supplier Part: C2936213; Manufacturer Part: HDGC1002WR-S-3P; Supplier Footprint: SMD,P=1mm; JLCPCB Part Class: 扩展库; Datasheet: https://atta.szlcsc.com/upload/public/pdf/source/20211229/E8A09E85670B5E97244D2008A24D97FE.pdf; Supplier: LCSC; Convert to PCB: yes
footprint CONN-TH_XT30PW-M
footprint CONN-TH_XT60PW-M
pins: 1, 2 2+, 3, 4